# Altium schematic symbol library capacitors.SchLib: 15 symbols
Pins are listed as number, name and electrical type; pins without a type are passive.

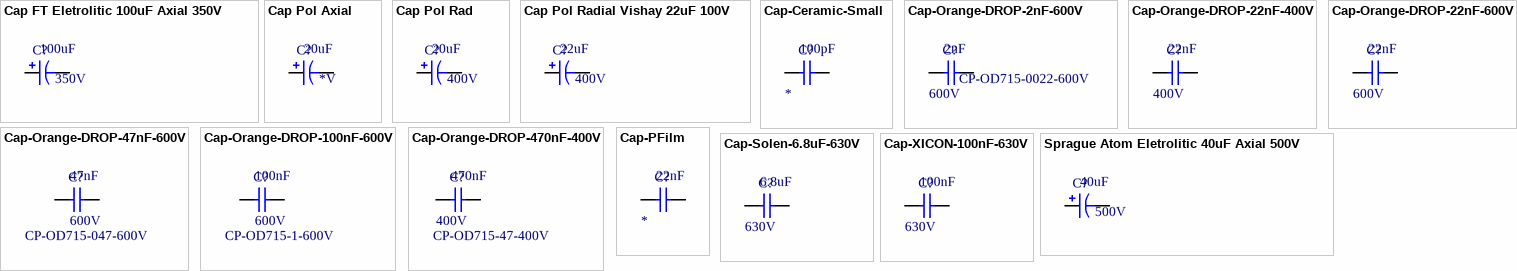
[diagram p0: symbols Cap FT Eletrolitic 100uF Axial 350V to Sprague Atom Eletrolitic 40uF Axial 500V]

## Cap FT Eletrolitic 100uF Axial 350V
designator C?  value 100uF  Voltage: 350V  (hidden comment: Cap FT Eletrolitic 100uF Axial 350V)
FT Eletrolitic Polarized Capacitor Axial 100uF; Published: 8-Jun-2000; LatestRevisionDate: 12-Feb-2014; LatestRevisionNote: Re-released for DXP Platform.; PackageReference: POLAR0.8; Publisher: Whitesheep Amps; PackageDescription: Polarized Capacitor; 2 Leads
simulation model CAP (Capacitor)
signal-integrity model Cap Pol
footprint FT Eletrolitic 100uF Axial (FT Axial Eletrolitic Capacitor Thru-Hole; 2 Leads; 45.0mm Pin Spacing)
pins: 1, 2
1 alternate drawing of the same symbol

## Cap Pol Axial
designator C?  value 20uF  Voltage: *V  (hidden comment: Cap Pol Axial)
Polarized Capacitor Axial; Published: 8-Jun-2000; LatestRevisionDate: 12-Feb-2014; LatestRevisionNote: Re-released for DXP Platform.; PackageReference: POLAR0.8; Publisher: Whitesheep Amps; PackageDescription: Polarized Capacitor; 2 Leads
simulation model CAP (Capacitor)
signal-integrity model Cap Pol
footprint AXIAL-POL-30mm (Axial Eletrolitic Capacitor Thru-Hole; 2 Leads; 30.0mm Pin Spacing)
pins: 1, 2
1 alternate drawing of the same symbol

## Cap Pol Rad
designator C?  value 20uF  Voltage: 400V  (hidden comment: Cap Pol Rad)
Polarized Capacitor (Axial); Published: 8-Jun-2000; LatestRevisionDate: 17-Jul-2002; LatestRevisionNote: Re-released for DXP Platform.; PackageReference: POLAR0.8; Publisher: Altium Limited; PackageDescription: Polarized Capacitor; 2 Leads
simulation model CAP (Capacitor)
signal-integrity model Cap Pol
footprint RAD-POL-7.6-15 (Polarized Capacitor (Radial); 2 Leads)
pins: 1, 2
1 alternate drawing of the same symbol

## Cap Pol Radial Vishay 22uF 100V
designator C?  value 22uF  Voltage: 400V  (hidden comment: Cap Pol Radial Vishay 22uF 100V)
Vishay 22uF 100V Polarized Capacitor (Radial); 2 Leads; Part Number: 142 RHS; Published: 8-Jun-2000; LatestRevisionDate: 17-Jul-2002; LatestRevisionNote: Re-released for DXP Platform.; PackageReference: POLAR0.8; Publisher: Altium Limited; PackageDescription: Polarized Capacitor; 2 Leads
simulation model CAP (Capacitor)
signal-integrity model Cap Pol
footprint RAD-POL-16x20x7.5 (Vishay 22uF 100V Polarized Capacitor (Radial); 2 Leads)
pins: 1, 2
1 alternate drawing of the same symbol

## Cap-Ceramic-Small
designator C?, comment value 100pF  (hidden comment: Ceramic Cap)
Capacitor; Published: 8-Jun-2000; LatestRevisionDate: 17-Jul-2002; LatestRevisionNote: Re-released for DXP Platform.; PackageReference: RAD-0.3; Publisher: Altium Limited; PackageDescription: Radial Cap, Thru-Hole; 2 Leads; 0.3 in Pin Spacing; Voltage: *
footprint RAD-0.3 (Radial Cap, Thru-Hole; 2 Leads; 0.3 in Pin Spacing)
simulation model CAP (Capacitor)
signal-integrity model Cap
footprint RAD-0.4 (Radial Cap, Thru-Hole; 2 Leads; 0.4 in Pin Spacing)
footprint RAD-0.2 (Radial Cap, Thru-Hole; 2 Leads; 0.2 in Pin Spacing)
pins: 1, 2

## Cap-Orange-DROP-2nF-600V
designator C?, comment value 2nF  Voltage: 600V  TubeDepotPN: CP-OD715-0022-600V  (hidden comment: Orange Drop Capacitor)
Capacitor; ManufacturerPartNumber: 715P22296J; Published: 1-June-2014; LatestRevisionDate: 1-June-2014; LatestRevisionNote: Creating the document; PackageReference: Orange Drop; Publisher: Linda HB Amplifiers; PackageDescription: Radial Cap, Thru-Hole; 2 Leads; 9.75mm Pin Spacing
simulation model CAP (Capacitor)
signal-integrity model Cap
footprint ORANGE-DROP-2nF-600V (Orange Drop Capacitor 2nF WxLxH=17.8x8.4.20x9.4mm - Lead 9.5mm)
pins: 1, 2

## Cap-Orange-DROP-22nF-400V
designator C?, comment value 22nF  Voltage: 400V  (hidden comment: Orange Drop Capacitor)
Capacitor; Published: 8-Jun-2000; LatestRevisionDate: 17-Jul-2002; LatestRevisionNote: Re-released for DXP Platform.; PackageReference: RAD-0.3; Publisher: Altium Limited; PackageDescription: Radial Cap, Thru-Hole; 2 Leads; 0.3 in Pin Spacing
simulation model CAP (Capacitor)
signal-integrity model Cap
footprint ORANGE-DROP-22nF-400V (Orange Drop Capacitor 22nF WxLxH=43.2x21.6x25 mm)
pins: 1, 2

## Cap-Orange-DROP-22nF-600V
designator C?, comment value 22nF  Voltage: 600V  (hidden comment: Orange Drop Capacitor)
Capacitor; ManufacturerPartNumber: 715P22356KD3; Published: 23-April-2014; LatestRevisionDate: 23-April-2014; LatestRevisionNote: Creating the document; PackageReference: Orange Drop; Publisher: Linda HB Amplifiers; PackageDescription: Radial Cap, Thru-Hole; 2 Leads; 9.75mm Pin Spacing
simulation model CAP (Capacitor)
signal-integrity model Cap
footprint ORANGE-DROP-22nF-600V (Orange Drop Capacitor 22nF WxLxH=31.0x11.20x12.7mm - Lead 18.30mm)
pins: 1, 2

## Cap-Orange-DROP-47nF-600V
designator C?, comment value 47nF  Voltage: 600V  TUBEDEPOT_SN: CP-OD715-047-600V  (hidden comment: Orange Drop Capacitor)
Capacitor; ManufacturerPartNumber: 715P47396L; Published: 18-May-2014; LatestRevisionDate: 18-May-2014; LatestRevisionNote: Re-released for DXP Platform.; PackageReference: RAD-0.3; Publisher: Linda HB Amps; PackageDescription: Radial Cap, Thru-Hole; 2 Leads; 0.3 in Pin Spacing
simulation model CAP (Capacitor)
signal-integrity model Cap
footprint ORANGE-DROP-47nF-600V (Orange Drop Capacitor 47nF WxLxH=31.8x13.20x14.2mm - Lead 18.30mm)
pins: 1, 2

## Cap-Orange-DROP-100nF-600V
designator C?, comment value 100nF  Voltage: 600V  TUBEDEPOT_SN: CP-OD715-1-600V  (hidden comment: Orange Drop Capacitor)
Capacitor; ManufacturerPartNumber: 715P10496L; Published: 8-Jun-2000; LatestRevisionDate: 17-Jul-2002; LatestRevisionNote: Re-released for DXP Platform.; PackageReference: RAD-0.3; Publisher: Altium Limited; PackageDescription: Radial Cap, Thru-Hole; 2 Leads; 0.3 in Pin Spacing
simulation model CAP (Capacitor)
signal-integrity model Cap
footprint ORANGE-DROP-100nF-600V (Orange Drop Capacitor 47nF WxLxH=31.8x18x19.2mm - Lead 18.30mm)
pins: 1, 2

## Cap-Orange-DROP-470nF-400V
designator C?, comment value 470nF  Voltage: 400V  TUBE_DEPOT_SN: CP-OD715-47-400V  (hidden comment: Orange Drop Capacitor)
Capacitor; ManufacturerPartNumber: 715P47494M; Published: 17-May-2014; LatestRevisionDate: 17-May-2014; LatestRevisionNote: Adding component; PackageReference: Orange Drop; Publisher: Linda HB Amplifiers; PackageDescription: Radial Cap, Thru-Hole; 2 Leads; 9.75mm Pin Spacing
simulation model CAP (Capacitor)
signal-integrity model Cap
footprint ORANGE-DROP-470-nF-400V (Orange Drop Capacitor 470nF WxLxH=41.9x20.8x122.4mm - Lead 18.30mm)
pins: 1, 2

## Cap-PFilm
designator C?, comment value 22nF  (hidden comment: Polyester Film)
Capacitor; Published: 8-Jun-2000; LatestRevisionDate: 17-Jul-2002; LatestRevisionNote: Re-released for DXP Platform.; PackageReference: RAD-0.3; Publisher: Altium Limited; PackageDescription: Radial Cap, Thru-Hole; 2 Leads; 0.3 in Pin Spacing; Voltage: *
footprint RAD-0.3 (Radial Cap, Thru-Hole; 2 Leads; 0.3 in Pin Spacing)
simulation model CAP (Capacitor)
signal-integrity model Cap
footprint RAD-0.4 (Radial Cap, Thru-Hole; 2 Leads; 0.4 in Pin Spacing)
pins: 1, 2

## Cap-Solen-6.8uF-630V
designator C?, comment value 6.8uF  Voltage: 630V  (hidden comment: Metalized Polypropylene)
Metalized Polypropylene, 630V, Solen "Fast" 6.8uF; ManufacturerPartNumber: NA; store: tubesandmore.com; storenumber: C-FSD68-630; Published: 26-April-2014; LatestRevisionDate: 26-April-2014; LatestRevisionNote: Creating the document; PackageReference: SOLEN FAST; Publisher: Linda HB Amplifiers; PackageDescription: Radial Cap, Thru-Hole; 2 Leads; 50.9mm Pin Spacing
simulation model CAP (Capacitor)
signal-integrity model Cap
footprint SOLEN-METALIZED-POLYPROPYLENE-6.8uF-50mm (Metalized Polypropylene, 630V, Solen "Fast" - Length 42mm Diameter: 24.6mm)
pins: 1, 2

## Cap-XICON-100nF-630V
designator C?, comment value 100nF  Voltage: 630V  (hidden comment: Orange Drop Capacitor)
Capacitor XICON (WINE COVER) Polypropilene CAP 630V; Published: 8-Jun-2000; LatestRevisionDate: 17-Jul-2002; LatestRevisionNote: Re-released for DXP Platform.; PackageReference: RAD-0.3; Publisher: Altium Limited; PackageDescription: Radial Cap, Thru-Hole; 2 Leads; 0.3 in Pin Spacing
simulation model CAP (Capacitor)
signal-integrity model Cap
footprint CAP-XICON-100nF-630V (Radial Cap, Thru-Hole; 2 Leads; 0.4 in Pin Spacing)
pins: 1, 2

## Sprague Atom Eletrolitic 40uF Axial 500V
designator C?  value 40uF  Voltage: 500V  (hidden comment: Sprague Atom Eletrolitic 40uF Axial 500V)
Published: 8-Jun-2000; LatestRevisionDate: 12-Feb-2014; LatestRevisionNote: Re-released for DXP Platform.; PackageReference: POLAR0.8; Publisher: Whitesheep Amps; PackageDescription: Polarized Capacitor; 2 Leads
simulation model CAP (Capacitor)
signal-integrity model Cap Pol
footprint SPRAGUE-ATOM-40uF-500V (Pending Description)
pins: 1, 2
1 alternate drawing of the same symbol